# EAGLE library part PROMINI-JUSTSIDE (library aobotelhoLibrary)
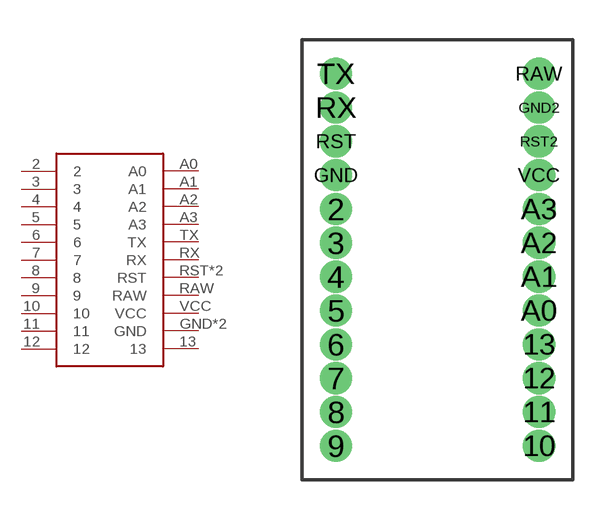
[diagram p2: symbol with the pads of PROMINI-JUSTSIDE; footprint PROMINI-JUSTSIDE]

Designator prefix -

## PROMINI-JUSTSIDE  [PROMINI-JUSTSIDE]
2  2
3  3
4  4
5  5
6  6
7  7
8  8
9  9
10  10
11  11
12  12
13  13
A0  A0
A1  A1
A2  A2
A3  A3
GND  GND
GND2  GND
RAW  RAW
RST  RST
RST2  RST
RX  RX
TX  TX
VCC  VCC

## Footprint PROMINI-JUSTSIDE (pad centres in mm)
drill 0.7 pad 1.016: 2 -3.81,1.27; 3 -3.81,0; 4 -3.81,-1.27; 5 -3.81,-2.54; 6 -3.81,-3.81; 7 -3.81,-5.08; 8 -3.81,-6.35; 9 -3.81,-7.62; 10 3.81,-7.62; 11 3.81,-6.35; 12 3.81,-5.08; 13 3.81,-3.81; A0 3.81,-2.54; A1 3.81,-1.27; A2 3.81,0; A3 3.81,1.27; GND -3.81,2.54; GND2 3.81,5.08; RAW 3.81,6.35; RST -3.81,3.81; RST2 3.81,3.81; RX -3.81,5.08; TX -3.81,6.35; VCC 3.81,2.54